# Altium footprint library memo.PcbLib: 57 footprints (part 2 of 4)
Each footprint in its own frame and in the unit in brackets; x right, y up, seen from the top. Pads: shape width x height; smd on the part's side, far side on the other; paste and mask are expansions set on the pad; w line width, h text height; cw(c..) or ccw(c..) is an arc to the next point about the centre after c.
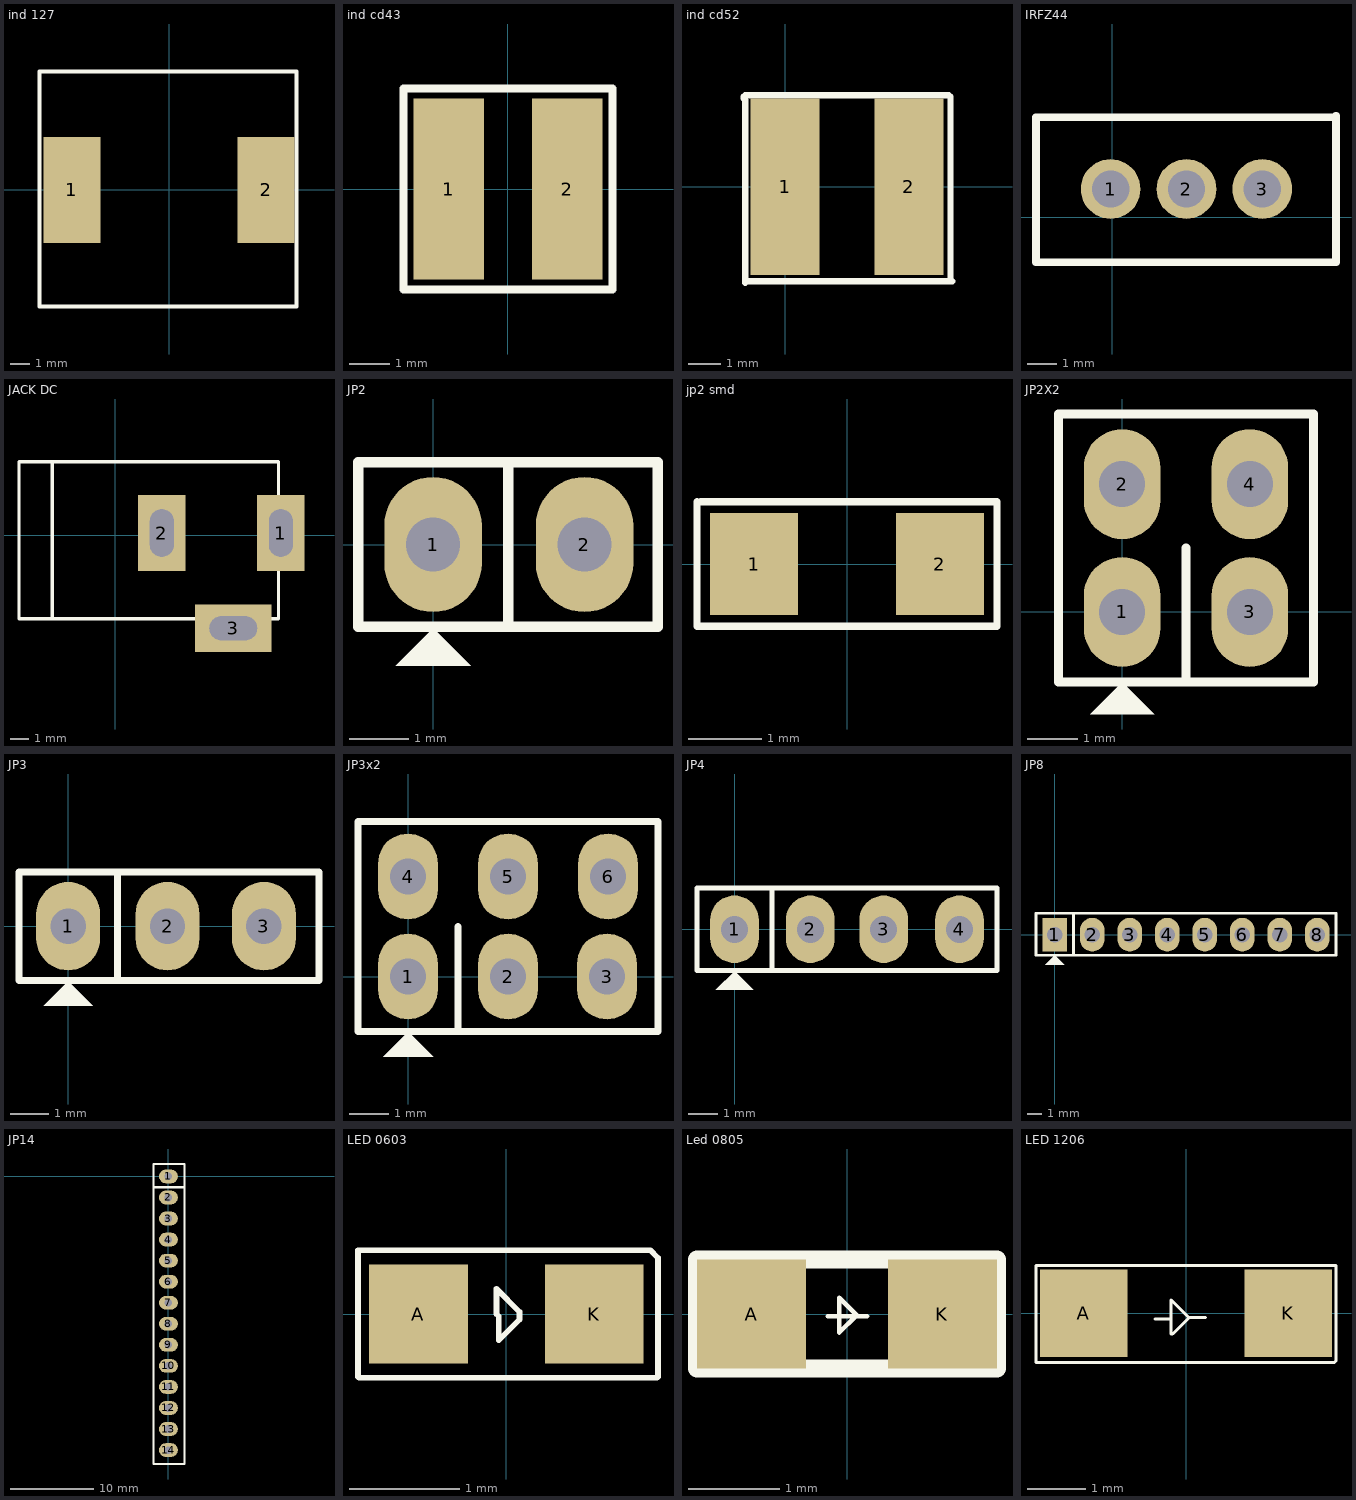
[diagram p1: the footprints below, top view; thin cyan lines are the x and y axes]

## ind 127 [mm]
pads (2):
  rect 2.9x5.4 smd: 1(-4.95,0) 2(4.95,0)
Top Overlay:
  lines w0.2: -6.6,0 -6.6,-5.95 6.5,-5.95 6.5,6.05 -6.6,6.05 -6.6,0.05

## ind cd43 [mm]
pads (2):
  rect 1.75x4.5 smd: 1(-1.475,0) 2(1.475,0)
Top Overlay:
  lines w0.2: -2.6,-2.5 2.6,-2.5 2.6,2.5 -2.6,2.5 -2.6,0 -2.6,-2.5
3D body "Inductor SP43.STEP": height 3.19, standoff 0, extent -1.95,-2.217 2.05,2.217

## ind cd52 [mm]
pads (2):
  rect 2.15x5.5 smd: 1(0,0) 2(3.85,0)
Top Overlay:
  lines w0.2: -1.3,2.8 -1.3,2.75 -1.25,2.7 -1.25,-3 ; -1.25,2.85 5.1,2.85 5.15,2.8 5.15,-2.9 ; -1.2,-2.95 5.2,-2.95
3D body "Inductor SP43.STEP": height 3.19, standoff 0, extent -0.15,-2.283 3.85,2.15

## IRFZ44 [mm]
pads (3):
  round 2 hole 1.25: 1(-0.05,0.95) 2(2.49,0.95) 3(5.03,0.95)
Top Overlay:
  lines w0.254: -2.55,-1.5 7.5,-1.5 7.5,3.4 7.45,3.35 -2.55,3.35 -2.55,-1.5

## JACK DC [mil]
pads (3):
  rect 100x160 hole 50 slot 100 at 90 deg: 1(348,5) 2(98,5)
  rect 160x100 hole 50 slot 100 at 0 deg: 3(248,-195)
Top Overlay:
  lines w7: -132,-175 -132,155 ; -202,-175 -202,155 343,155 343,-175 -202,-175
3D body "SW3dPS-dc range - dc connector[4840.2201].STEP": height 433.67, standoff -137.2, extent -187.35,-200.12 357,174.12

## JP2 [mil]
pads (2):
  oval 65x90 hole 36: 1(0,0) 2(101,0)
Top Overlay:
  region: 0,-56 -25,-81 25,-81
  lines w7: 50,-55 50,55 ; -50,-55 -50,55 150,55 150,-55 -50,-55
3D body "JP2.stp": height 354.33, standoff -86.61, extent -48.03,-50 148.03,48.43

## jp2 smd [mm]
pads (2):
  rect 1.2x1.4 smd: 1(-1.27,0) 2(1.27,0)
Top Overlay:
  lines w0.1: -2.05,0.85 -2.05,-0.85 2.05,-0.85 2.05,0.85 -2,0.85

## JP2X2 [mil]
pads (4):
  oval 60x86 hole 36: 1(0,0) 2(0,100) 3(100,0) 4(100,100)
Top Overlay:
  region: 0,-55 -25,-80 25,-80
  lines w7: 50,-55 50,50 ; -50,-55 -50,155 150,155 150,-55 -50,-55
3D body "JP2X2.stp": height 366.14, standoff -86.61, extent -49.99,-49.99 150.01,150.01

## JP3 [mil]
pads (3):
  oval 65x90 hole 36: 1(0,0) 2(101,0) 3(199,0)
Top Overlay:
  region: 0,-56 -25,-81 25,-81
  lines w7: 50,-55 50,55 ; -50,-55 255,-55 255,55 -50,55 -50,-55
3D body "pin_header_aw140-eg-g03d.stp": height 354.33, standoff -86.61, extent -46.05,-49.04 253.94,49.32

## JP3x2 [mil]
pads (6):
  oval 60x86 hole 36: 1(0,0) 2(100,0) 3(199,0) 4(0,100) 5(100,100) 6(200,100)
Top Overlay:
  region: 0,-55 -25,-80 25,-80
  lines w7: 50,-55 50,50 ; -50,-55 -50,50 -50,155 250,155 250,-55 -50,-55
3D body "JP2-3.stp": height 366.14, standoff -86.61, extent -49.99,-49.99 250.01,150.01

## JP4 [mil]
pads (4):
  oval 65x90 hole 36: 1(0,0) 2(101,0) 3(199,0) 4(300,0)
Top Overlay:
  region: 0,-56 -25,-81 25,-81
  lines w7: 50,-55 50,55 ; -50,-55 350,-55 350,55 -50,55 -50,-55
3D body "JP4.stp": height 354.33, standoff -86.61, extent -48.03,-48.43 348.03,50

## JP8 [mil]
pads (8):
  rect 65x90 hole 42: 1(0,0)
  oval 65x90 hole 42: 2(100,0) 3(200,0) 4(300,0) 5(400,0) 6(500,0) 7(600,0) 8(700,0)
Top Overlay:
  region: 0,-55 -25,-80 25,-80
  lines w7: 50,-55 50,55 ; -50,-55 -50,-21 -50,23 -50,57 750,57 750,-55 -50,-55
3D body "JP1-8.stp": height 354.33, standoff -86.61, extent -48.04,-50 748.03,48.43

## JP14 [mil]
pads (14):
  oval 90x65 hole 35.98: 1(0,0) 2(0,-100) 3(0,-200) 4(0,-300) 5(0,-400) 6(0,-500) 7(0,-600) 8(0,-700) 9(0,-800) 10(0,-900) 11(0,-1000) 12(0,-1100) 13(0,-1200) 14(0,-1300)
Top Overlay:
  lines w10: -66.93,-51.18 72.83,-51.18 ; -70.87,-1364.17 -70.87,59.06 76.77,59.06 76.77,-1366.14 74.8,-1366.14 -68.9,-1366.14 -70.87,-1364.17

## LED 0603 [mm]
pads (2):
  rect 0.9x0.9 smd: A(-0.8,0) K(0.8,0)
Top Overlay:
  lines w0.051: -1.35,-0.57 -1.35,0.58 1.31,0.58 1.38,0.51 1.38,-0.57 1.37,-0.58 -1.34,-0.58 -1.35,-0.57 ; -0.09,0 -0.09,0.23 0.12,0.02 0.12,-0.05 -0.07,-0.24 -0.07,-0.02 -0.09,0

## Led 0805 [mm]
pads (2):
  rect 1.2x1.2 smd: A(-1.05,0) K(1.05,0)
Top Overlay:
  lines w0.051: -0.21,-0.025 0.22,-0.025 ; -0.083,-0.203 0.095,-0.025 0.12,-0.025 -0.083,0.178 -0.083,-0.203
  lines w0.2: -1.65,-0.6 1.65,-0.6 1.65,0.6 -1.65,0.6 -1.65,0 -1.65,-0.6

## LED 1206 [mm]
pads (2):
  rect 1.5x1.5 smd: A(-1.75,0) K(1.75,0)
Top Overlay:
  lines w0.051: -0.533,-0.102 -0.254,-0.102 ; 0.33,-0.076 0.051,-0.076 ; 0.051,-0.076 -0.229,-0.356 -0.254,-0.356 -0.254,0.229 0.051,-0.076 ; -2.565,-0.838 -2.565,0.813 2.565,0.813 2.565,-0.813 2.54,-0.838 -2.565,-0.838